# EAGLE library part M12 (library Robot)
12-PIN HEADER Standard 12-pin 0.1" header.
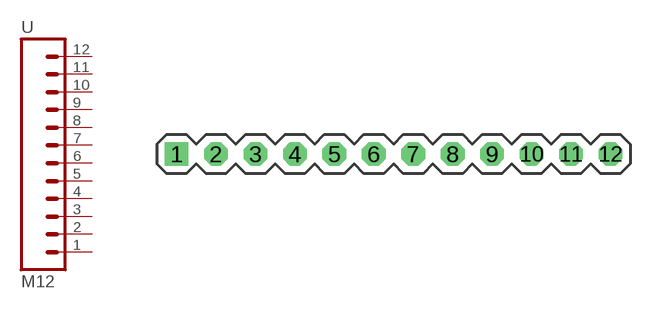
[diagram p17: symbol with the pads of 1X12; footprint 1X12]

Designator prefix -

## M12PTH  [1X12]
1  1  pas
2  2  pas
3  3  pas
4  4  pas
5  5  pas
6  6  pas
7  7  pas
8  8  pas
9  9  pas
10  10  pas
11  11  pas
12  12  pas

## Footprint 1X12 (pad centres in mm)
PIN HEADER (1X12, 0.1" spaced, 8mil silkscreen)
drill 1.016 square: 1 0,0
drill 1.016 octagon: 2 2.54,0; 3 5.08,0; 4 7.62,0; 5 10.16,0; 6 12.7,0; 7 15.24,0; 8 17.78,0; 9 20.32,0; 10 22.86,0; 11 25.4,0; 12 27.94,0